# Altium schematic symbol library Asix Electronics.SchLib: 1 symbol
Pins are listed as number, name and electrical type; pins without a type are passive.

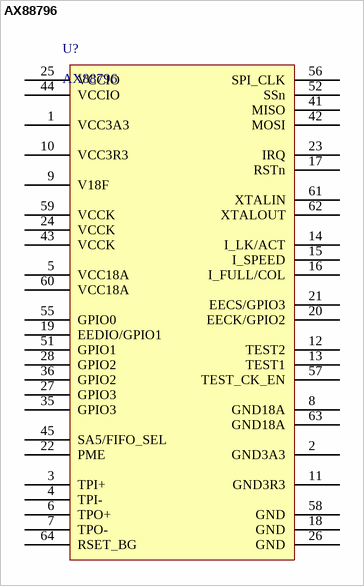
[diagram p0: symbol AX88796]

## AX88796
designator U?
pins: 1 VCC3A3, 2 GND3A3, 3 TPI+, 4 TPI-, 5 VCC18A, 6 TPO+, 7 TPO-, 8 GND18A, 9 V18F, 10 VCC3R3, 11 GND3R3, 12 TEST2, 13 TEST1, 14 I_LK/ACT, 15 I_SPEED, 16 I_FULL/COL, 17 RSTn, 18 GND, 19 EEDIO/GPIO1, 20 EECK/GPIO2, 21 EECS/GPIO3, 22 PME, 23 IRQ, 24 VCCK, 25 VCCIO, 26 GND, 27 GPIO3, 28 GPIO2, 35 GPIO3, 36 GPIO2, 41 MISO, 42 MOSI, 43 VCCK, 44 VCCIO, 45 SA5/FIFO_SEL, 51 GPIO1, 52 SSn, 55 GPIO0, 56 SPI_CLK, 57 TEST_CK_EN, 58 GND, 59 VCCK, 60 VCC18A, 61 XTALIN, 62 XTALOUT, 63 GND18A, 64 RSET_BG